# Altium integrated library Linear Technology Comparators.IntLib: 630 symbols (part 7 of 24)
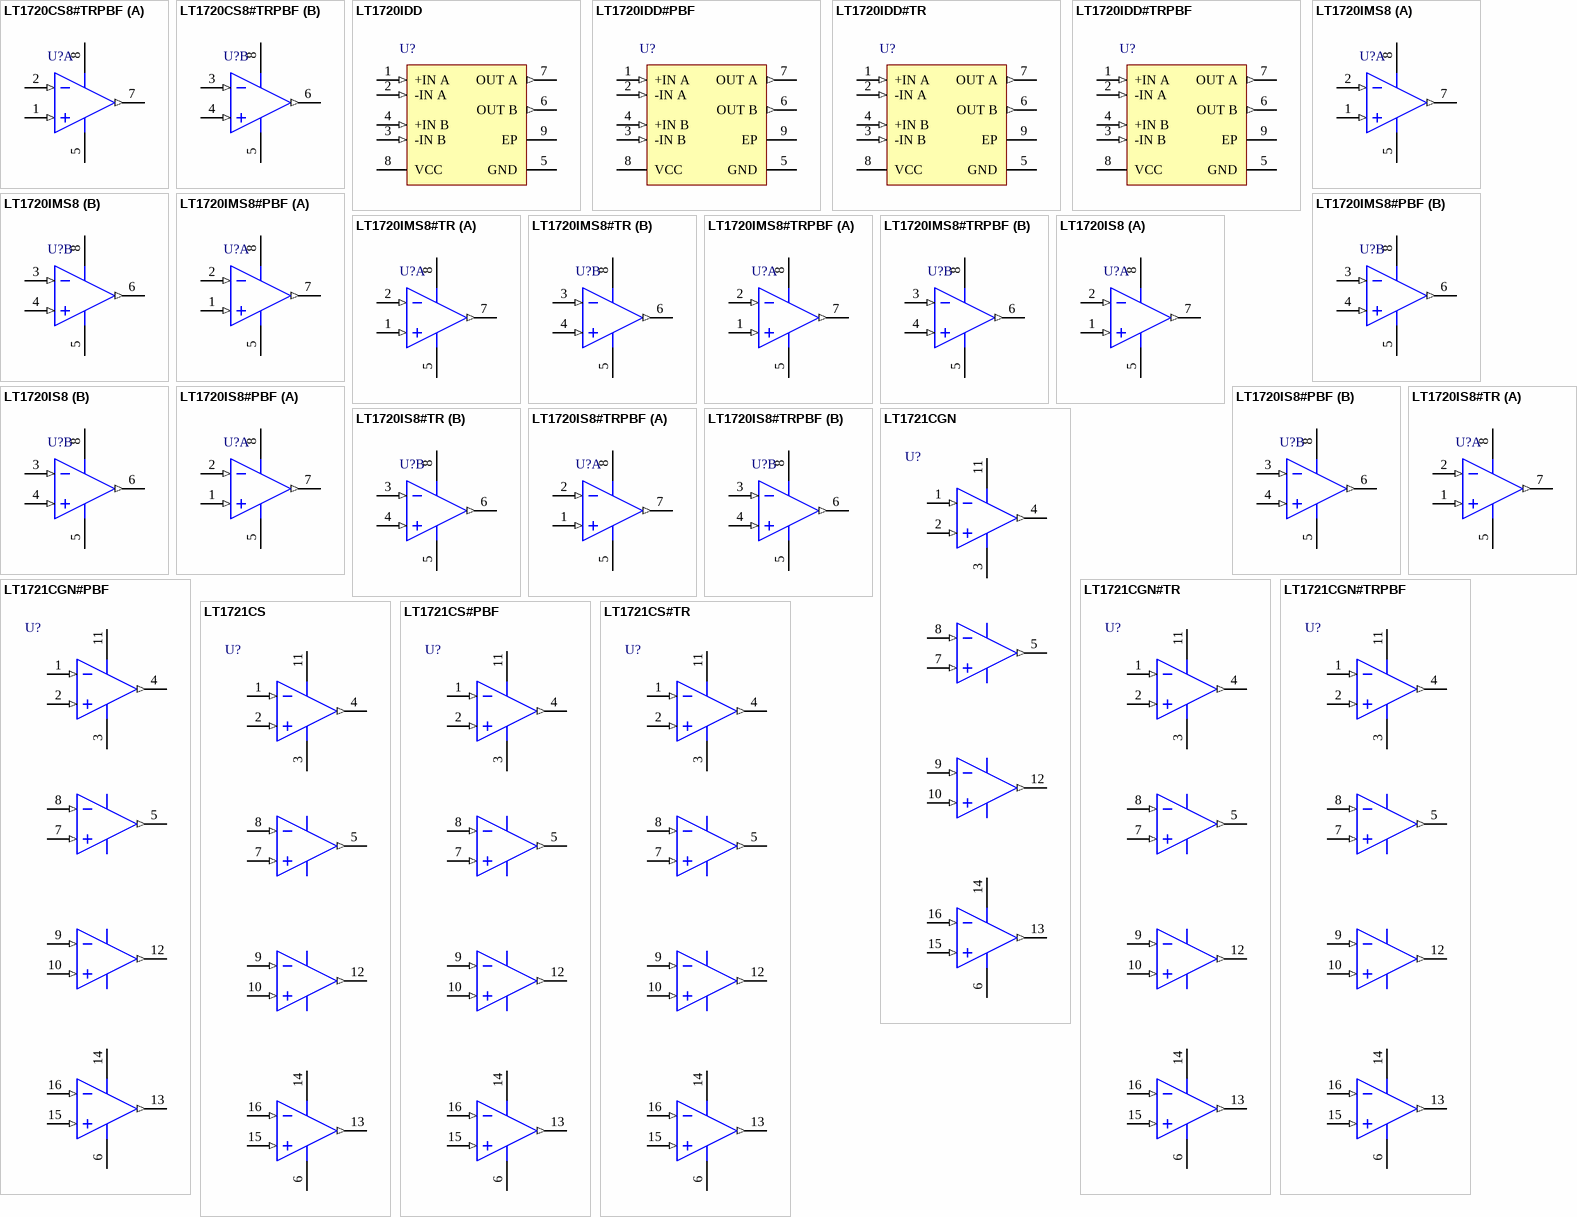
[diagram p30: symbols LT1720CS8#TRPBF to LT1721CS#TR]

## LT1720IS8#TR
designator U?
4.5 ns, Single Supply 3 V / 5 V Comparator with Rail-to-Rail Outputs, 2 Channels, 2.7 to 6 V, -40 to +85 degC, 8-pin SOP (S8), Tape and Reel; Generic Part Number: LT1720; Manufacturer: Linear Technology; PartNumber: LT1720IS8#TR; Channels (#): 2; Prop Delay (us): 0.0045; Supply Current (uA) Typical: 4000; Vos (mV) Guaranteed: 3; Vos (mV) Typical: 1; Vs Max (V): 6; Vs Min (V): 2.7; DatasheetVersion: Rev C; PackageReference: S8; PackageDescription: 8-Pin Plastic Small Outline (Narrow .150 Inch), Body 4.9 x 3.9 mm, Pitch 1.27 mm; Supplier 1: Digi-Key; Supplier Part Number 1: LT1720IS8#TR-ND; Supplier 2: Newark; Supplier Part Number 2: 57M5840; Features: Comparator, Rail-to-Rail Out; RoHS: N; Supply Voltage Range: 2.7 to 6 V; Mounting Technology: Surface Mount; ComponentLink1Description: Manufacturer URL; ComponentLink1URL: http://www.linear.com/; ComponentLink2Description: Datasheet; ComponentLink2URL: http://cds.linear.com/docs/en/datasheet/17201fc.pdf; ComponentLink3Description: Package Specification; ComponentLink3URL: http://cds.linear.com/docs/en/packaging/05081610_G_SO8.pdf
footprint LT-S8_N (SOP, 8-Leads, Body 4.9x3.9mm, Pitch 1.27mm, IPC Medium Density)
footprint LT-S8_L (SOP, 8-Leads, Body 4.9x3.9mm, Pitch 1.27mm, IPC High Density)
footprint LT-S8_M (SOP, 8-Leads, Body 4.9x3.9mm, Pitch 1.27mm, IPC Low Density)
pins on every part: 5 GND (power), 8 VCC (power)
part A pins: 1 +INA (in), 2 -INA (in), 7 OUTA (out)
part B pins: 3 -INB (in), 4 +INB (in), 6 OUTB (out)

## LT1720IS8#TRPBF
designator U?
4.5 ns, Single Supply 3 V / 5 V Comparator with Rail-to-Rail Outputs, 2 Channels, 2.7 to 6 V, -40 to +85 degC, 8-pin SOP (S8), Tape and Reel; Generic Part Number: LT1720; Manufacturer: Linear Technology; PartNumber: LT1720IS8#TRPBF; Channels (#): 2; Prop Delay (us): 0.0045; Supply Current (uA) Typical: 4000; Vos (mV) Guaranteed: 3; Vos (mV) Typical: 1; Vs Max (V): 6; Vs Min (V): 2.7; DatasheetVersion: Rev C; PackageReference: S8; PackageDescription: 8-Pin Plastic Small Outline (Narrow .150 Inch), Body 4.9 x 3.9 mm, Pitch 1.27 mm; Supplier 1: Digi-Key; Supplier Part Number 1: LT1720IS8#TRPBF-ND; Supplier 2: Newark; Supplier Part Number 2: 57M5841; Features: Comparator, Rail-to-Rail Out; RoHS: Y; Supply Voltage Range: 2.7 to 6 V; Mounting Technology: Surface Mount; ComponentLink1Description: Manufacturer URL; ComponentLink1URL: http://www.linear.com/; ComponentLink2Description: Datasheet; ComponentLink2URL: http://cds.linear.com/docs/en/datasheet/17201fc.pdf; ComponentLink3Description: Package Specification; ComponentLink3URL: http://cds.linear.com/docs/en/packaging/05081610_G_SO8.pdf
footprint LT-S8_N (SOP, 8-Leads, Body 4.9x3.9mm, Pitch 1.27mm, IPC Medium Density)
footprint LT-S8_L (SOP, 8-Leads, Body 4.9x3.9mm, Pitch 1.27mm, IPC High Density)
footprint LT-S8_M (SOP, 8-Leads, Body 4.9x3.9mm, Pitch 1.27mm, IPC Low Density)
pins on every part: 5 GND (power), 8 VCC (power)
part A pins: 1 +INA (in), 2 -INA (in), 7 OUTA (out)
part B pins: 3 -INB (in), 4 +INB (in), 6 OUTB (out)

## LT1721CGN
designator U?
4.5 ns, Single Supply 3 V / 5 V Comparator with Rail-to-Rail Outputs, 4 Channels, 2.7 to 6 V, 0 to +70 degC, 16-pin Plastic SSOP (GN16); Generic Part Number: LT1721; Manufacturer: Linear Technology; PartNumber: LT1721CGN; Channels (#): 4; Prop Delay (us): 0.0045; Supply Current (uA) Typical: 4000; Vos (mV) Guaranteed: 3; Vos (mV) Typical: 1; Vs Max (V): 6; Vs Min (V): 2.7; DatasheetVersion: Rev C; PackageReference: GN16; PackageDescription: 16-Pin Plastic SSOP, Body 4.89 x 3.9 mm, Pitch 0.635 mm; Supplier 1: Digi-Key; Supplier Part Number 1: LT1721CGN-ND; Features: Comparator, Rail-to-Rail Out; RoHS: N; Supply Voltage Range: 2.7 to 6 V; Mounting Technology: Surface Mount; ComponentLink1Description: Manufacturer URL; ComponentLink1URL: http://www.linear.com/; ComponentLink2Description: Datasheet; ComponentLink2URL: http://cds.linear.com/docs/en/datasheet/17201fc.pdf; ComponentLink3Description: Package Specification; ComponentLink3URL: http://cds.linear.com/docs/en/packaging/05081641_B_GN16.pdf
footprint LT-GN16_N (SOP, 16-Leads, Body 4.89x3.9mm, Pitch 0.635mm, , IPC Medium Density)
footprint LT-GN16_L (SOP, 16-Leads, Body 4.89x3.9mm, Pitch 0.635mm, , IPC High Density)
footprint LT-GN16_M (SOP, 16-Leads, Body 4.89x3.9mm, Pitch 0.635mm, , IPC Low Density)
pins: 1 -INA (in), 2 +INA (in), 3 GND (power), 4 OUTA (out), 5 OUTB (out), 6 GND (power), 7 +INB (in), 8 -INB (in), 9 -INC (in), 10 +INC (in), 11 VCC (power), 12 OUTC (out), 13 OUTD (out), 14 VCC (power), 15 +IND (in), 16 -IND (in)

## LT1721CGN#PBF
designator U?
4.5 ns, Single Supply 3 V / 5 V Comparator with Rail-to-Rail Outputs, 4 Channels, 2.7 to 6 V, 0 to +70 degC, 16-pin Plastic SSOP (GN16); Generic Part Number: LT1721; Manufacturer: Linear Technology; PartNumber: LT1721CGN#PBF; Channels (#): 4; Prop Delay (us): 0.0045; Supply Current (uA) Typical: 4000; Vos (mV) Guaranteed: 3; Vos (mV) Typical: 1; Vs Max (V): 6; Vs Min (V): 2.7; DatasheetVersion: Rev C; PackageReference: GN16; PackageDescription: 16-Pin Plastic SSOP, Body 4.89 x 3.9 mm, Pitch 0.635 mm; Supplier 1: Digi-Key; Supplier Part Number 1: LT1721CGN#PBF-ND; Supplier 2: Farnell; Supplier Part Number 2: 1663475; Supplier 3: Newark; Supplier Part Number 3: 57M5843; Features: Comparator, Rail-to-Rail Out; RoHS: Y; Supply Voltage Range: 2.7 to 6 V; Mounting Technology: Surface Mount; ComponentLink1Description: Manufacturer URL; ComponentLink1URL: http://www.linear.com/; ComponentLink2Description: Datasheet; ComponentLink2URL: http://cds.linear.com/docs/en/datasheet/17201fc.pdf; ComponentLink3Description: Package Specification; ComponentLink3URL: http://cds.linear.com/docs/en/packaging/05081641_B_GN16.pdf
footprint LT-GN16_N (SOP, 16-Leads, Body 4.89x3.9mm, Pitch 0.635mm, , IPC Medium Density)
footprint LT-GN16_L (SOP, 16-Leads, Body 4.89x3.9mm, Pitch 0.635mm, , IPC High Density)
footprint LT-GN16_M (SOP, 16-Leads, Body 4.89x3.9mm, Pitch 0.635mm, , IPC Low Density)
pins: 1 -INA (in), 2 +INA (in), 3 GND (power), 4 OUTA (out), 5 OUTB (out), 6 GND (power), 7 +INB (in), 8 -INB (in), 9 -INC (in), 10 +INC (in), 11 VCC (power), 12 OUTC (out), 13 OUTD (out), 14 VCC (power), 15 +IND (in), 16 -IND (in)

## LT1721CGN#TR
designator U?
4.5 ns, Single Supply 3 V / 5 V Comparator with Rail-to-Rail Outputs, 4 Channels, 2.7 to 6 V, 0 to +70 degC, 16-pin Plastic SSOP (GN16), Tape and Reel; Generic Part Number: LT1721; Manufacturer: Linear Technology; PartNumber: LT1721CGN#TR; Channels (#): 4; Prop Delay (us): 0.0045; Supply Current (uA) Typical: 4000; Vos (mV) Guaranteed: 3; Vos (mV) Typical: 1; Vs Max (V): 6; Vs Min (V): 2.7; DatasheetVersion: Rev C; PackageReference: GN16; PackageDescription: 16-Pin Plastic SSOP, Body 4.89 x 3.9 mm, Pitch 0.635 mm; Supplier 1: Digi-Key; Supplier Part Number 1: LT1721CGN#TR-ND; Features: Comparator, Rail-to-Rail Out; RoHS: N; Supply Voltage Range: 2.7 to 6 V; Mounting Technology: Surface Mount; ComponentLink1Description: Manufacturer URL; ComponentLink1URL: http://www.linear.com/; ComponentLink2Description: Datasheet; ComponentLink2URL: http://cds.linear.com/docs/en/datasheet/17201fc.pdf; ComponentLink3Description: Package Specification; ComponentLink3URL: http://cds.linear.com/docs/en/packaging/05081641_B_GN16.pdf
footprint LT-GN16_N (SOP, 16-Leads, Body 4.89x3.9mm, Pitch 0.635mm, , IPC Medium Density)
footprint LT-GN16_L (SOP, 16-Leads, Body 4.89x3.9mm, Pitch 0.635mm, , IPC High Density)
footprint LT-GN16_M (SOP, 16-Leads, Body 4.89x3.9mm, Pitch 0.635mm, , IPC Low Density)
pins: 1 -INA (in), 2 +INA (in), 3 GND (power), 4 OUTA (out), 5 OUTB (out), 6 GND (power), 7 +INB (in), 8 -INB (in), 9 -INC (in), 10 +INC (in), 11 VCC (power), 12 OUTC (out), 13 OUTD (out), 14 VCC (power), 15 +IND (in), 16 -IND (in)

## LT1721CGN#TRPBF
designator U?
4.5 ns, Single Supply 3 V / 5 V Comparator with Rail-to-Rail Outputs, 4 Channels, 2.7 to 6 V, 0 to +70 degC, 16-pin Plastic SSOP (GN16), Tape and Reel; Generic Part Number: LT1721; Manufacturer: Linear Technology; PartNumber: LT1721CGN#TRPBF; Channels (#): 4; Prop Delay (us): 0.0045; Supply Current (uA) Typical: 4000; Vos (mV) Guaranteed: 3; Vos (mV) Typical: 1; Vs Max (V): 6; Vs Min (V): 2.7; DatasheetVersion: Rev C; PackageReference: GN16; PackageDescription: 16-Pin Plastic SSOP, Body 4.89 x 3.9 mm, Pitch 0.635 mm; Supplier 1: Digi-Key; Supplier Part Number 1: LT1721CGN#TRPBF-ND; Supplier 2: Newark; Supplier Part Number 2: 57M5845; Features: Comparator, Rail-to-Rail Out; RoHS: Y; Supply Voltage Range: 2.7 to 6 V; Mounting Technology: Surface Mount; ComponentLink1Description: Manufacturer URL; ComponentLink1URL: http://www.linear.com/; ComponentLink2Description: Datasheet; ComponentLink2URL: http://cds.linear.com/docs/en/datasheet/17201fc.pdf; ComponentLink3Description: Package Specification; ComponentLink3URL: http://cds.linear.com/docs/en/packaging/05081641_B_GN16.pdf
footprint LT-GN16_N (SOP, 16-Leads, Body 4.89x3.9mm, Pitch 0.635mm, , IPC Medium Density)
footprint LT-GN16_L (SOP, 16-Leads, Body 4.89x3.9mm, Pitch 0.635mm, , IPC High Density)
footprint LT-GN16_M (SOP, 16-Leads, Body 4.89x3.9mm, Pitch 0.635mm, , IPC Low Density)
pins: 1 -INA (in), 2 +INA (in), 3 GND (power), 4 OUTA (out), 5 OUTB (out), 6 GND (power), 7 +INB (in), 8 -INB (in), 9 -INC (in), 10 +INC (in), 11 VCC (power), 12 OUTC (out), 13 OUTD (out), 14 VCC (power), 15 +IND (in), 16 -IND (in)

## LT1721CS
designator U?
4.5 ns, Single Supply 3 V / 5 V Comparator with Rail-to-Rail Outputs, 4 Channels, 2.7 to 6 V, 0 to +70 degC, 16-pin SOP (S16); Generic Part Number: LT1721; Manufacturer: Linear Technology; PartNumber: LT1721CS; Channels (#): 4; Prop Delay (us): 0.0045; Supply Current (uA) Typical: 4000; Vos (mV) Guaranteed: 3; Vos (mV) Typical: 1; Vs Max (V): 6; Vs Min (V): 2.7; DatasheetVersion: Rev C; PackageReference: S16; PackageDescription: 16-Pin Plastic Small Outline, Body 9.91 x 3.9 mm, Pitch 1.27 mm; Supplier 1: Digi-Key; Supplier Part Number 1: LT1721CS-ND; Features: Comparator, Rail-to-Rail Out; RoHS: N; Supply Voltage Range: 2.7 to 6 V; Mounting Technology: Surface Mount; ComponentLink1Description: Manufacturer URL; ComponentLink1URL: http://www.linear.com/; ComponentLink2Description: Datasheet; ComponentLink2URL: http://cds.linear.com/docs/en/datasheet/17201fc.pdf; ComponentLink3Description: Package Specification; ComponentLink3URL: http://cds.linear.com/docs/en/packaging/05081610_G_S14.pdf
footprint LT-S16_N (SOIC, 16-Leads, Body 9.9x3.9mm, Pitch 1.27mm, IPC Medium Density)
footprint LT-S16_L (SOIC, 16-Leads, Body 9.9x3.9mm, Pitch 1.27mm, IPC High Density)
footprint LT-S16_M (SOIC, 16-Leads, Body 9.9x3.9mm, Pitch 1.27mm, IPC Low Density)
pins: 1 -INA (in), 2 +INA (in), 3 GND (power), 4 OUTA (out), 5 OUTB (out), 6 GND (power), 7 +INB (in), 8 -INB (in), 9 -INC (in), 10 +INC (in), 11 VCC (power), 12 OUTC (out), 13 OUTD (out), 14 VCC (power), 15 +IND (in), 16 -IND (in)

## LT1721CS#PBF
designator U?
Quad, 4.5 ns, Single Supply 3 V / 5 V Comparator with Rail-to-Rail Outputs, 4 Channels, 2.7 to 6 V, 0 to +70 degC, 16-pin SOP (S16); Generic Part Number: LT1721; Manufacturer: Linear Technology; PartNumber: LT1721CS#PBF; Channels (#): 4; Prop Delay (us): 0.0045; Supply Current (uA) Typical: 4000; Vos (mV) Guaranteed: 3; Vos (mV) Typical: 1; Vs Max (V): 6; Vs Min (V): 2.7; DatasheetVersion: Rev C; PackageReference: S16; PackageDescription: 16-Pin Plastic Small Outline, Body 9.91 x 3.9 mm, Pitch 1.27 mm; Supplier 1: Digi-Key; Supplier Part Number 1: LT1721CS#PBF-ND; Supplier 2: Farnell; Supplier Part Number 2: 1663476; Supplier 3: Newark; Supplier Part Number 3: 57M5847; Features: Comparator, Rail-to-Rail Out; RoHS: Y; Supply Voltage Range: 2.7 to 6 V; Mounting Technology: Surface Mount; ComponentLink1Description: Manufacturer URL; ComponentLink1URL: http://www.linear.com/; ComponentLink2Description: Datasheet; ComponentLink2URL: http://cds.linear.com/docs/en/datasheet/17201fc.pdf; ComponentLink3Description: Package Specification; ComponentLink3URL: http://cds.linear.com/docs/en/packaging/05081610_G_S14.pdf
footprint LT-S16_N (SOIC, 16-Leads, Body 9.9x3.9mm, Pitch 1.27mm, IPC Medium Density)
footprint LT-S16_L (SOIC, 16-Leads, Body 9.9x3.9mm, Pitch 1.27mm, IPC High Density)
footprint LT-S16_M (SOIC, 16-Leads, Body 9.9x3.9mm, Pitch 1.27mm, IPC Low Density)
pins: 1 -INA (in), 2 +INA (in), 3 GND (power), 4 OUTA (out), 5 OUTB (out), 6 GND (power), 7 +INB (in), 8 -INB (in), 9 -INC (in), 10 +INC (in), 11 VCC (power), 12 OUTC (out), 13 OUTD (out), 14 VCC (power), 15 +IND (in), 16 -IND (in)

## LT1721CS#TR
designator U?
Quad, 4.5 ns, Single Supply 3 V / 5 V Comparator with Rail-to-Rail Outputs, 4 Channels, 2.7 to 6 V, 0 to +70 degC, 16-pin SOP (S16), Tape and Reel; Generic Part Number: LT1721; Manufacturer: Linear Technology; PartNumber: LT1721CS#TR; Channels (#): 4; Prop Delay (us): 0.0045; Supply Current (uA) Typical: 4000; Vos (mV) Guaranteed: 3; Vos (mV) Typical: 1; Vs Max (V): 6; Vs Min (V): 2.7; DatasheetVersion: Rev C; PackageReference: S16; PackageDescription: 16-Pin Plastic Small Outline, Body 9.91 x 3.9 mm, Pitch 1.27 mm; Supplier 1: Digi-Key; Supplier Part Number 1: LT1721CS#TR-ND; Features: Comparator, Rail-to-Rail Out; RoHS: N; Supply Voltage Range: 2.7 to 6 V; Mounting Technology: Surface Mount; ComponentLink1Description: Manufacturer URL; ComponentLink1URL: http://www.linear.com/; ComponentLink2Description: Datasheet; ComponentLink2URL: http://cds.linear.com/docs/en/datasheet/17201fc.pdf; ComponentLink3Description: Package Specification; ComponentLink3URL: http://cds.linear.com/docs/en/packaging/05081610_G_S14.pdf
footprint LT-S16_N (SOIC, 16-Leads, Body 9.9x3.9mm, Pitch 1.27mm, IPC Medium Density)
footprint LT-S16_L (SOIC, 16-Leads, Body 9.9x3.9mm, Pitch 1.27mm, IPC High Density)
footprint LT-S16_M (SOIC, 16-Leads, Body 9.9x3.9mm, Pitch 1.27mm, IPC Low Density)
pins: 1 -INA (in), 2 +INA (in), 3 GND (power), 4 OUTA (out), 5 OUTB (out), 6 GND (power), 7 +INB (in), 8 -INB (in), 9 -INC (in), 10 +INC (in), 11 VCC (power), 12 OUTC (out), 13 OUTD (out), 14 VCC (power), 15 +IND (in), 16 -IND (in)

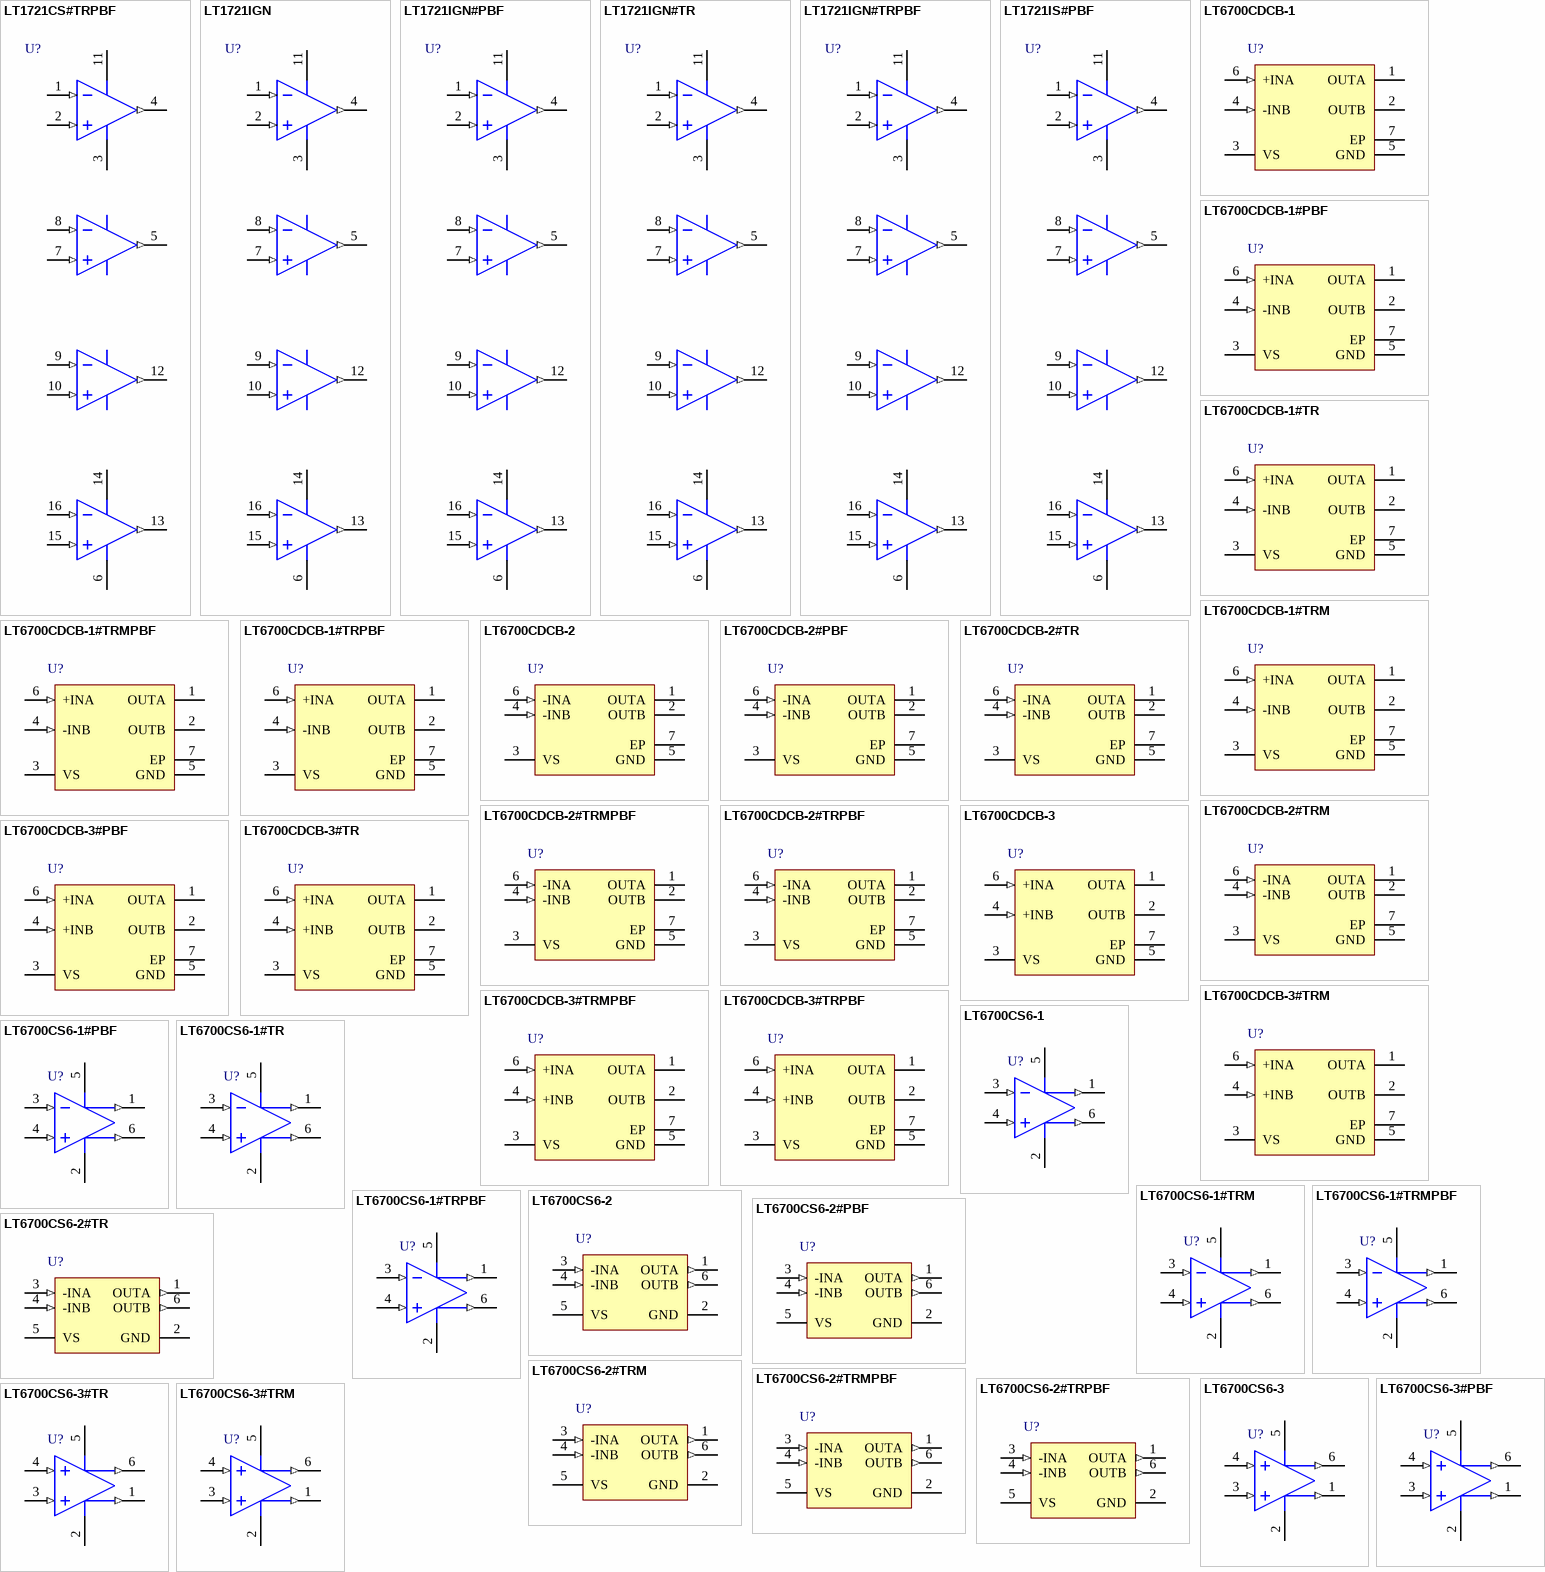
[diagram p8: symbols LT1721CS#TRPBF to LT6700CS6-3#TRM]

## LT1721CS#TRPBF
designator U?
Quad, 4.5 ns, Single Supply 3 V / 5 V Comparator with Rail-to-Rail Outputs, 4 Channels, 2.7 to 6 V, 0 to +70 degC, 16-pin SOP (S16), Tape and Reel; Generic Part Number: LT1721; Manufacturer: Linear Technology; PartNumber: LT1721CS#TRPBF; Channels (#): 4; Prop Delay (us): 0.0045; Supply Current (uA) Typical: 4000; Vos (mV) Guaranteed: 3; Vos (mV) Typical: 1; Vs Max (V): 6; Vs Min (V): 2.7; DatasheetVersion: Rev C; PackageReference: S16; PackageDescription: 16-Pin Plastic Small Outline, Body 9.91 x 3.9 mm, Pitch 1.27 mm; Supplier 1: Digi-Key; Supplier Part Number 1: LT1721CS#TRPBF-ND; Features: Comparator, Rail-to-Rail Out; RoHS: Y; Supply Voltage Range: 2.7 to 6 V; Mounting Technology: Surface Mount; ComponentLink1Description: Manufacturer URL; ComponentLink1URL: http://www.linear.com/; ComponentLink2Description: Datasheet; ComponentLink2URL: http://cds.linear.com/docs/en/datasheet/17201fc.pdf; ComponentLink3Description: Package Specification; ComponentLink3URL: http://cds.linear.com/docs/en/packaging/05081610_G_S14.pdf
footprint LT-S16_N (SOIC, 16-Leads, Body 9.9x3.9mm, Pitch 1.27mm, IPC Medium Density)
footprint LT-S16_L (SOIC, 16-Leads, Body 9.9x3.9mm, Pitch 1.27mm, IPC High Density)
footprint LT-S16_M (SOIC, 16-Leads, Body 9.9x3.9mm, Pitch 1.27mm, IPC Low Density)
pins: 1 -INA (in), 2 +INA (in), 3 GND (power), 4 OUTA (out), 5 OUTB (out), 6 GND (power), 7 +INB (in), 8 -INB (in), 9 -INC (in), 10 +INC (in), 11 VCC (power), 12 OUTC (out), 13 OUTD (out), 14 VCC (power), 15 +IND (in), 16 -IND (in)

## LT1721IGN
designator U?
Quad, 4.5 ns, Single Supply 3 V / 5 V Comparator with Rail-to-Rail Outputs, 4 Channels, 2.7 to 6 V, -40 to +85 degC, 16-pin Plastic SSOP (GN16); Generic Part Number: LT1721; Manufacturer: Linear Technology; PartNumber: LT1721IGN; Channels (#): 4; Prop Delay (us): 0.0045; Supply Current (uA) Typical: 4000; Vos (mV) Guaranteed: 3; Vos (mV) Typical: 1; Vs Max (V): 6; Vs Min (V): 2.7; DatasheetVersion: Rev C; PackageReference: GN16; PackageDescription: 16-Pin Plastic SSOP, Body 4.89 x 3.9 mm, Pitch 0.635 mm; Supplier 1: Digi-Key; Supplier Part Number 1: LT1721IGN-ND; Features: Comparator, Rail-to-Rail Out; RoHS: N; Supply Voltage Range: 2.7 to 6 V; Mounting Technology: Surface Mount; ComponentLink1Description: Manufacturer URL; ComponentLink1URL: http://www.linear.com/; ComponentLink2Description: Datasheet; ComponentLink2URL: http://cds.linear.com/docs/en/datasheet/17201fc.pdf; ComponentLink3Description: Package Specification; ComponentLink3URL: http://cds.linear.com/docs/en/packaging/05081641_B_GN16.pdf
footprint LT-GN16_N (SOP, 16-Leads, Body 4.89x3.9mm, Pitch 0.635mm, , IPC Medium Density)
footprint LT-GN16_L (SOP, 16-Leads, Body 4.89x3.9mm, Pitch 0.635mm, , IPC High Density)
footprint LT-GN16_M (SOP, 16-Leads, Body 4.89x3.9mm, Pitch 0.635mm, , IPC Low Density)
pins: 1 -INA (in), 2 +INA (in), 3 GND (power), 4 OUTA (out), 5 OUTB (out), 6 GND (power), 7 +INB (in), 8 -INB (in), 9 -INC (in), 10 +INC (in), 11 VCC (power), 12 OUTC (out), 13 OUTD (out), 14 VCC (power), 15 +IND (in), 16 -IND (in)

## LT1721IGN#PBF
designator U?
Quad, 4.5 ns, Single Supply 3 V / 5 V Comparator with Rail-to-Rail Outputs, 4 Channels, 2.7 to 6 V, -40 to +85 degC, 16-pin Plastic SSOP (GN16); Generic Part Number: LT1721; Manufacturer: Linear Technology; PartNumber: LT1721IGN#PBF; Channels (#): 4; Prop Delay (us): 0.0045; Supply Current (uA) Typical: 4000; Vos (mV) Guaranteed: 3; Vos (mV) Typical: 1; Vs Max (V): 6; Vs Min (V): 2.7; DatasheetVersion: Rev C; PackageReference: GN16; PackageDescription: 16-Pin Plastic SSOP, Body 4.89 x 3.9 mm, Pitch 0.635 mm; Supplier 1: Digi-Key; Supplier Part Number 1: LT1721IGN#PBF-ND; Supplier 2: Newark; Supplier Part Number 2: 57M5851; Features: Comparator, Rail-to-Rail Out; RoHS: Y; Supply Voltage Range: 2.7 to 6 V; Mounting Technology: Surface Mount; ComponentLink1Description: Manufacturer URL; ComponentLink1URL: http://www.linear.com/; ComponentLink2Description: Datasheet; ComponentLink2URL: http://cds.linear.com/docs/en/datasheet/17201fc.pdf; ComponentLink3Description: Package Specification; ComponentLink3URL: http://cds.linear.com/docs/en/packaging/05081641_B_GN16.pdf
footprint LT-GN16_N (SOP, 16-Leads, Body 4.89x3.9mm, Pitch 0.635mm, , IPC Medium Density)
footprint LT-GN16_L (SOP, 16-Leads, Body 4.89x3.9mm, Pitch 0.635mm, , IPC High Density)
footprint LT-GN16_M (SOP, 16-Leads, Body 4.89x3.9mm, Pitch 0.635mm, , IPC Low Density)
pins: 1 -INA (in), 2 +INA (in), 3 GND (power), 4 OUTA (out), 5 OUTB (out), 6 GND (power), 7 +INB (in), 8 -INB (in), 9 -INC (in), 10 +INC (in), 11 VCC (power), 12 OUTC (out), 13 OUTD (out), 14 VCC (power), 15 +IND (in), 16 -IND (in)

## LT1721IGN#TR
designator U?
Quad, 4.5 ns, Single Supply 3 V / 5 V Comparator with Rail-to-Rail Outputs, 4 Channels, 2.7 to 6 V, -40 to +85 degC, 16-pin Plastic SSOP (GN16), Tape and Reel; Generic Part Number: LT1721; Manufacturer: Linear Technology; PartNumber: LT1721IGN#TR; Channels (#): 4; Prop Delay (us): 0.0045; Supply Current (uA) Typical: 4000; Vos (mV) Guaranteed: 3; Vos (mV) Typical: 1; Vs Max (V): 6; Vs Min (V): 2.7; DatasheetVersion: Rev C; PackageReference: GN16; PackageDescription: 16-Pin Plastic SSOP, Body 4.89 x 3.9 mm, Pitch 0.635 mm; Supplier 1: Digi-Key; Supplier Part Number 1: LT1721IGN#TR-ND; Features: Comparator, Rail-to-Rail Out; RoHS: N; Supply Voltage Range: 2.7 to 6 V; Mounting Technology: Surface Mount; ComponentLink1Description: Manufacturer URL; ComponentLink1URL: http://www.linear.com/; ComponentLink2Description: Datasheet; ComponentLink2URL: http://cds.linear.com/docs/en/datasheet/17201fc.pdf; ComponentLink3Description: Package Specification; ComponentLink3URL: http://cds.linear.com/docs/en/packaging/05081641_B_GN16.pdf
footprint LT-GN16_N (SOP, 16-Leads, Body 4.89x3.9mm, Pitch 0.635mm, , IPC Medium Density)
footprint LT-GN16_L (SOP, 16-Leads, Body 4.89x3.9mm, Pitch 0.635mm, , IPC High Density)
footprint LT-GN16_M (SOP, 16-Leads, Body 4.89x3.9mm, Pitch 0.635mm, , IPC Low Density)
pins: 1 -INA (in), 2 +INA (in), 3 GND (power), 4 OUTA (out), 5 OUTB (out), 6 GND (power), 7 +INB (in), 8 -INB (in), 9 -INC (in), 10 +INC (in), 11 VCC (power), 12 OUTC (out), 13 OUTD (out), 14 VCC (power), 15 +IND (in), 16 -IND (in)

## LT1721IGN#TRPBF
designator U?
4.5 ns, Single Supply 3 V / 5 V Comparator with Rail-to-Rail Outputs, 4 Channels, 2.7 to 6 V, -40 to +85 degC, 16-pin Plastic SSOP (GN16), Tape and Reel; Generic Part Number: LT1721; Manufacturer: Linear Technology; PartNumber: LT1721IGN#TRPBF; Channels (#): 4; Prop Delay (us): 0.0045; Supply Current (uA) Typical: 4000; Vos (mV) Guaranteed: 3; Vos (mV) Typical: 1; Vs Max (V): 6; Vs Min (V): 2.7; DatasheetVersion: Rev C; PackageReference: GN16; PackageDescription: 16-Pin Plastic SSOP, Body 4.89 x 3.9 mm, Pitch 0.635 mm; Supplier 1: Digi-Key; Supplier Part Number 1: LT1721IGN#TRPBF-ND; Supplier 2: Newark; Supplier Part Number 2: 57M5853; Features: Comparator, Rail-to-Rail Out; RoHS: Y; Supply Voltage Range: 2.7 to 6 V; Mounting Technology: Surface Mount; ComponentLink1Description: Manufacturer URL; ComponentLink1URL: http://www.linear.com/; ComponentLink2Description: Datasheet; ComponentLink2URL: http://cds.linear.com/docs/en/datasheet/17201fc.pdf; ComponentLink3Description: Package Specification; ComponentLink3URL: http://cds.linear.com/docs/en/packaging/05081641_B_GN16.pdf
footprint LT-GN16_N (SOP, 16-Leads, Body 4.89x3.9mm, Pitch 0.635mm, , IPC Medium Density)
footprint LT-GN16_L (SOP, 16-Leads, Body 4.89x3.9mm, Pitch 0.635mm, , IPC High Density)
footprint LT-GN16_M (SOP, 16-Leads, Body 4.89x3.9mm, Pitch 0.635mm, , IPC Low Density)
pins: 1 -INA (in), 2 +INA (in), 3 GND (power), 4 OUTA (out), 5 OUTB (out), 6 GND (power), 7 +INB (in), 8 -INB (in), 9 -INC (in), 10 +INC (in), 11 VCC (power), 12 OUTC (out), 13 OUTD (out), 14 VCC (power), 15 +IND (in), 16 -IND (in)

## LT1721IS#PBF
designator U?
4.5 ns, Single Supply 3 V / 5 V Comparator with Rail-to-Rail Outputs, 4 Channels, 2.7 to 6 V, -40 to +85 degC, 16-pin SOP (S16); Generic Part Number: LT1721; Manufacturer: Linear Technology; PartNumber: LT1721IS#PBF; Channels (#): 4; Prop Delay (us): 0.0045; Supply Current (uA) Typical: 4000; Vos (mV) Guaranteed: 3; Vos (mV) Typical: 1; Vs Max (V): 6; Vs Min (V): 2.7; DatasheetVersion: Rev C; PackageReference: S16; PackageDescription: 16-Pin Plastic Small Outline, Body 9.91 x 3.9 mm, Pitch 1.27 mm; Supplier 1: Digi-Key; Supplier Part Number 1: LT1721IS#PBF-ND; Supplier 2: Newark; Supplier Part Number 2: 57M5855; Features: Comparator, Rail-to-Rail Out; RoHS: Y; Supply Voltage Range: 2.7 to 6 V; Mounting Technology: Surface Mount; ComponentLink1Description: Manufacturer URL; ComponentLink1URL: http://www.linear.com/; ComponentLink2Description: Datasheet; ComponentLink2URL: http://cds.linear.com/docs/en/datasheet/17201fc.pdf; ComponentLink3Description: Package Specification; ComponentLink3URL: http://cds.linear.com/docs/en/packaging/05081610_G_S14.pdf
footprint LT-S16_N (SOIC, 16-Leads, Body 9.9x3.9mm, Pitch 1.27mm, IPC Medium Density)
footprint LT-S16_L (SOIC, 16-Leads, Body 9.9x3.9mm, Pitch 1.27mm, IPC High Density)
footprint LT-S16_M (SOIC, 16-Leads, Body 9.9x3.9mm, Pitch 1.27mm, IPC Low Density)
pins: 1 -INA (in), 2 +INA (in), 3 GND (power), 4 OUTA (out), 5 OUTB (out), 6 GND (power), 7 +INB (in), 8 -INB (in), 9 -INC (in), 10 +INC (in), 11 VCC (power), 12 OUTC (out), 13 OUTD (out), 14 VCC (power), 15 +IND (in), 16 -IND (in)

## LT6700CDCB-1
designator U?
Micropower, Low Voltage, Comparator with 400 mV Reference, 2 Channels, 1.4 to 18 V, 0 to +70 degC, 6-pin Plastic DFN (DCB6); Generic Part Number: LT6700-1; Manufacturer: Linear Technology; PartNumber: LT6700CDCB-1; Channels (#): 2; Prop Delay (us): 18; Supply Current (uA) Guaranteed: 10; Supply Current (uA) Typical: 5.7; Vos (mV) Typical: 6; Vs Min (V): 1.4; DatasheetVersion: Rev G; PackageReference: DCB6; PackageDescription: 6-Pin Plastic DFN, Body 2 × 3 mm, Pitch 1.35 mm; Features: Comparator, Window Comparator, Reference, Over-the-Top Inputs; RoHS: N; Supply Voltage Range: 1.4 to 18 V; Vs Max (V): 18; Mounting Technology: Surface Mount; Code_JEDEC: M0-229; ComponentLink1Description: Manufacturer URL; ComponentLink1URL: http://www.linear.com/; ComponentLink2Description: Datasheet; ComponentLink2URL: http://cds.linear.com/docs/en/datasheet/6700123fg.pdf; ComponentLink3Description: Package Specification; ComponentLink3URL: http://cds.linear.com/docs/en/packaging/(DCB6)%20DFN%2005-08-1715%20Rev%20A.pdf
footprint LT-DCB6_V (SON, 6-Leads, Body 2x3mm, Pitch 0.5mm, Thermal Pad 1.35x1.65mm)
pins: 1 OUTA (oc) "Open-Collector Output of Comparator Section A This pin provides drive for up to 40mA of load current.off state voltage may be as high as 18V (36V for LT6700HV) above GND ,regardless of VS used.", 2 OUTB (oc) "Open-Collector Output of Comparator Section B  This pin provides drive for up to 40mA of load current .off state voltage may be as high as 18V(36V for LT6700HV)above  GND,regardless of VS used.", 3 VS (power) "Comparator Core Supply Voltage. The parts are characterized for operation with 1.4V =< VS =< 18V with respect to GND.", 4 -INB (in) "External Input for Comparator Section B. The voltage on this pin can range from -0.3V to 18V (36V for LT6700HV) with respect to GND regardless of VS used. The input is noninverting for the LT6700-3/LT6700HV-3, and inverting (See Datasheet)", 5 GND (power) "Ground. This pin is also the low side return of the internal 400mV reference", 6 +INA (in) "External Input for Comparator Section A. The voltage on this pin can range from -0.3V to 18V (36V for LT6700HV) with respect to GND regardless of VS used. The input is (See Datasheet)", 7 EP (power)

## LT6700CDCB-1#PBF
designator U?
Micropower, Low Voltage, Comparator with 400 mV Reference, 2 Channels, 1.4 to 18 V, 0 to +70 degC, 6-pin Plastic DFN (DCB6); Generic Part Number: LT6700-1; Manufacturer: Linear Technology; PartNumber: LT6700CDCB-1#PBF; Channels (#): 2; Prop Delay (us): 18; Supply Current (uA) Guaranteed: 10; Supply Current (uA) Typical: 5.7; Vos (mV) Typical: 6; Vs Min (V): 1.4; DatasheetVersion: Rev G; PackageReference: DCB6; PackageDescription: 6-Pin Plastic DFN, Body 2 × 3 mm, Pitch 1.35 mm; Features: Comparator, Window Comparator, Reference, Over-the-Top Inputs; RoHS: Y; Supply Voltage Range: 1.4 to 18 V; Vs Max (V): 18; Mounting Technology: Surface Mount; Code_JEDEC: M0-229; ComponentLink1Description: Manufacturer URL; ComponentLink1URL: http://www.linear.com/; ComponentLink2Description: Datasheet; ComponentLink2URL: http://cds.linear.com/docs/en/datasheet/6700123fg.pdf; ComponentLink3Description: Package Specification; ComponentLink3URL: http://cds.linear.com/docs/en/packaging/(DCB6)%20DFN%2005-08-1715%20Rev%20A.pdf
footprint LT-DCB6_V (SON, 6-Leads, Body 2x3mm, Pitch 0.5mm, Thermal Pad 1.35x1.65mm)
pins: 1 OUTA (oc) "Open-Collector Output of Comparator Section A This pin provides drive for up to 40mA of load current.off state voltage may be as high as 18V (36V for LT6700HV) above GND ,regardless of VS used.", 2 OUTB (oc) "Open-Collector Output of Comparator Section B  This pin provides drive for up to 40mA of load current .off state voltage may be as high as 18V(36V for LT6700HV)above  GND,regardless of VS used.", 3 VS (power) "Comparator Core Supply Voltage. The parts are characterized for operation with 1.4V =< VS =< 18V with respect to GND.", 4 -INB (in) "External Input for Comparator Section B. The voltage on this pin can range from -0.3V to 18V (36V for LT6700HV) with respect to GND regardless of VS used. The input is noninverting for the LT6700-3/LT6700HV-3, and inverting (See Datasheet)", 5 GND (power) "Ground. This pin is also the low side return of the internal 400mV reference", 6 +INA (in) "External Input for Comparator Section A. The voltage on this pin can range from -0.3V to 18V (36V for LT6700HV) with respect to GND regardless of VS used. The input is (See Datasheet)", 7 EP (power)

## LT6700CDCB-1#TR
designator U?
Micropower, Low Voltage, Comparator with 400 mV Reference, 2 Channels, 1.4 to 18 V, 0 to +70 degC, 6-pin Plastic DFN (DCB6), Tape and Reel; Generic Part Number: LT6700-1; Manufacturer: Linear Technology; PartNumber: LT6700CDCB-1#TR; Channels (#): 2; Prop Delay (us): 18; Supply Current (uA) Guaranteed: 10; Supply Current (uA) Typical: 5.7; Vos (mV) Typical: 6; Vs Min (V): 1.4; DatasheetVersion: Rev G; PackageReference: DCB6; PackageDescription: 6-Pin Plastic DFN, Body 2 × 3 mm, Pitch 1.35 mm; Features: Comparator, Window Comparator, Reference, Over-the-Top Inputs; RoHS: N; Supply Voltage Range: 1.4 to 18 V; Vs Max (V): 18; Mounting Technology: Surface Mount; Code_JEDEC: M0-229; ComponentLink1Description: Manufacturer URL; ComponentLink1URL: http://www.linear.com/; ComponentLink2Description: Datasheet; ComponentLink2URL: http://cds.linear.com/docs/en/datasheet/6700123fg.pdf; ComponentLink3Description: Package Specification; ComponentLink3URL: http://cds.linear.com/docs/en/packaging/(DCB6)%20DFN%2005-08-1715%20Rev%20A.pdf
footprint LT-DCB6_V (SON, 6-Leads, Body 2x3mm, Pitch 0.5mm, Thermal Pad 1.35x1.65mm)
pins: 1 OUTA (oc) "Open-Collector Output of Comparator Section A This pin provides drive for up to 40mA of load current.off state voltage may be as high as 18V (36V for LT6700HV) above GND ,regardless of VS used.", 2 OUTB (oc) "Open-Collector Output of Comparator Section B  This pin provides drive for up to 40mA of load current .off state voltage may be as high as 18V(36V for LT6700HV)above  GND,regardless of VS used.", 3 VS (power) "Comparator Core Supply Voltage. The parts are characterized for operation with 1.4V =< VS =< 18V with respect to GND.", 4 -INB (in) "External Input for Comparator Section B. The voltage on this pin can range from -0.3V to 18V (36V for LT6700HV) with respect to GND regardless of VS used. The input is noninverting for the LT6700-3/LT6700HV-3, and inverting (See Datasheet)", 5 GND (power) "Ground. This pin is also the low side return of the internal 400mV reference", 6 +INA (in) "External Input for Comparator Section A. The voltage on this pin can range from -0.3V to 18V (36V for LT6700HV) with respect to GND regardless of VS used. The input is (See Datasheet)", 7 EP (power)

## LT6700CDCB-1#TRM
designator U?
Micropower, Low Voltage, Comparator with 400 mV Reference, 2 Channels, 1.4 to 18 V, 0 to +70 degC, 6-pin Plastic DFN (DCB6), Mini Tape and Reel; Generic Part Number: LT6700-1; Manufacturer: Linear Technology; PartNumber: LT6700CDCB-1#TRM; Channels (#): 2; Prop Delay (us): 18; Supply Current (uA) Guaranteed: 10; Supply Current (uA) Typical: 5.7; Vos (mV) Typical: 6; Vs Min (V): 1.4; DatasheetVersion: Rev G; PackageReference: DCB6; PackageDescription: 6-Pin Plastic DFN, Body 2 × 3 mm, Pitch 1.35 mm; Features: Comparator, Window Comparator, Reference, Over-the-Top Inputs; RoHS: N; Supply Voltage Range: 1.4 to 18 V; Vs Max (V): 18; Mounting Technology: Surface Mount; Code_JEDEC: M0-229; ComponentLink1Description: Manufacturer URL; ComponentLink1URL: http://www.linear.com/; ComponentLink2Description: Datasheet; ComponentLink2URL: http://cds.linear.com/docs/en/datasheet/6700123fg.pdf; ComponentLink3Description: Package Specification; ComponentLink3URL: http://cds.linear.com/docs/en/packaging/(DCB6)%20DFN%2005-08-1715%20Rev%20A.pdf
footprint LT-DCB6_V (SON, 6-Leads, Body 2x3mm, Pitch 0.5mm, Thermal Pad 1.35x1.65mm)
pins: 1 OUTA (oc) "Open-Collector Output of Comparator Section A This pin provides drive for up to 40mA of load current.off state voltage may be as high as 18V (36V for LT6700HV) above GND ,regardless of VS used.", 2 OUTB (oc) "Open-Collector Output of Comparator Section B  This pin provides drive for up to 40mA of load current .off state voltage may be as high as 18V(36V for LT6700HV)above  GND,regardless of VS used.", 3 VS (power) "Comparator Core Supply Voltage. The parts are characterized for operation with 1.4V =< VS =< 18V with respect to GND.", 4 -INB (in) "External Input for Comparator Section B. The voltage on this pin can range from -0.3V to 18V (36V for LT6700HV) with respect to GND regardless of VS used. The input is noninverting for the LT6700-3/LT6700HV-3, and inverting (See Datasheet)", 5 GND (power) "Ground. This pin is also the low side return of the internal 400mV reference", 6 +INA (in) "External Input for Comparator Section A. The voltage on this pin can range from -0.3V to 18V (36V for LT6700HV) with respect to GND regardless of VS used. The input is (See Datasheet)", 7 EP (power)

## LT6700CDCB-1#TRMPBF
designator U?
Micropower, Low Voltage, Comparator with 400 mV Reference, 2 Channels, 1.4 to 18 V, 0 to +70 degC, 6-pin Plastic DFN (DCB6), Mini Tape and Reel; Generic Part Number: LT6700-1; Manufacturer: Linear Technology; PartNumber: LT6700CDCB-1#TRMPBF; Channels (#): 2; Prop Delay (us): 18; Supply Current (uA) Guaranteed: 10; Supply Current (uA) Typical: 5.7; Vos (mV) Typical: 6; Vs Min (V): 1.4; DatasheetVersion: Rev G; PackageReference: DCB6; PackageDescription: 6-Pin Plastic DFN, Body 2 × 3 mm, Pitch 1.35 mm; Supplier 1: Digi-Key; Supplier Part Number 1: LT6700CDCB-1#TRMPBF-ND; Features: Comparator, Window Comparator, Reference, Over-the-Top Inputs; RoHS: Y; Supply Voltage Range: 1.4 to 18 V; Vs Max (V): 18; Mounting Technology: Surface Mount; Code_JEDEC: M0-229; ComponentLink1Description: Manufacturer URL; ComponentLink1URL: http://www.linear.com/; ComponentLink2Description: Datasheet; ComponentLink2URL: http://cds.linear.com/docs/en/datasheet/6700123fg.pdf; ComponentLink3Description: Package Specification; ComponentLink3URL: http://cds.linear.com/docs/en/packaging/(DCB6)%20DFN%2005-08-1715%20Rev%20A.pdf
footprint LT-DCB6_V (SON, 6-Leads, Body 2x3mm, Pitch 0.5mm, Thermal Pad 1.35x1.65mm)
pins: 1 OUTA (oc) "Open-Collector Output of Comparator Section A This pin provides drive for up to 40mA of load current.off state voltage may be as high as 18V (36V for LT6700HV) above GND ,regardless of VS used.", 2 OUTB (oc) "Open-Collector Output of Comparator Section B  This pin provides drive for up to 40mA of load current .off state voltage may be as high as 18V(36V for LT6700HV)above  GND,regardless of VS used.", 3 VS (power) "Comparator Core Supply Voltage. The parts are characterized for operation with 1.4V =< VS =< 18V with respect to GND.", 4 -INB (in) "External Input for Comparator Section B. The voltage on this pin can range from -0.3V to 18V (36V for LT6700HV) with respect to GND regardless of VS used. The input is noninverting for the LT6700-3/LT6700HV-3, and inverting (See Datasheet)", 5 GND (power) "Ground. This pin is also the low side return of the internal 400mV reference", 6 +INA (in) "External Input for Comparator Section A. The voltage on this pin can range from -0.3V to 18V (36V for LT6700HV) with respect to GND regardless of VS used. The input is (See Datasheet)", 7 EP (power)

## LT6700CDCB-1#TRPBF
designator U?
Micropower, Low Voltage, Comparator with 400 mV Reference, 2 Channels, 1.4 to 18 V, 0 to +70 degC, 6-pin Plastic DFN (DCB6), Tape and Reel; Generic Part Number: LT6700-1; Manufacturer: Linear Technology; PartNumber: LT6700CDCB-1#TRPBF; Channels (#): 2; Prop Delay (us): 18; Supply Current (uA) Guaranteed: 10; Supply Current (uA) Typical: 5.7; Vos (mV) Typical: 6; Vs Min (V): 1.4; DatasheetVersion: Rev G; PackageReference: DCB6; PackageDescription: 6-Pin Plastic DFN, Body 2 × 3 mm, Pitch 1.35 mm; Supplier 1: Digi-Key; Supplier Part Number 1: LT6700CDCB-1#TRPBF-ND; Features: Comparator, Window Comparator, Reference, Over-the-Top Inputs; RoHS: Y; Supply Voltage Range: 1.4 to 18 V; Vs Max (V): 18; Mounting Technology: Surface Mount; Code_JEDEC: M0-229; ComponentLink1Description: Manufacturer URL; ComponentLink1URL: http://www.linear.com/; ComponentLink2Description: Datasheet; ComponentLink2URL: http://cds.linear.com/docs/en/datasheet/6700123fg.pdf; ComponentLink3Description: Package Specification; ComponentLink3URL: http://cds.linear.com/docs/en/packaging/(DCB6)%20DFN%2005-08-1715%20Rev%20A.pdf
footprint LT-DCB6_V (SON, 6-Leads, Body 2x3mm, Pitch 0.5mm, Thermal Pad 1.35x1.65mm)
pins: 1 OUTA (oc) "Open-Collector Output of Comparator Section A This pin provides drive for up to 40mA of load current.off state voltage may be as high as 18V (36V for LT6700HV) above GND ,regardless of VS used.", 2 OUTB (oc) "Open-Collector Output of Comparator Section B  This pin provides drive for up to 40mA of load current .off state voltage may be as high as 18V(36V for LT6700HV)above  GND,regardless of VS used.", 3 VS (power) "Comparator Core Supply Voltage. The parts are characterized for operation with 1.4V =< VS =< 18V with respect to GND.", 4 -INB (in) "External Input for Comparator Section B. The voltage on this pin can range from -0.3V to 18V (36V for LT6700HV) with respect to GND regardless of VS used. The input is noninverting for the LT6700-3/LT6700HV-3, and inverting (See Datasheet)", 5 GND (power) "Ground. This pin is also the low side return of the internal 400mV reference", 6 +INA (in) "External Input for Comparator Section A. The voltage on this pin can range from -0.3V to 18V (36V for LT6700HV) with respect to GND regardless of VS used. The input is (See Datasheet)", 7 EP (power)

## LT6700CDCB-2
designator U?
Micropower, Low Voltage, Comparator with 400 mV Reference, 2 Channels, 1.4 to 18 V, 0 to +70 degC, 6-pin Plastic DFN (DCB6); Generic Part Number: LT6700-2; Manufacturer: Linear Technology; PartNumber: LT6700CDCB-2; Channels (#): 2; Prop Delay (us): 18; Supply Current (uA) Guaranteed: 10; Supply Current (uA) Typical: 5.7; Vos (mV) Typical: 6; Vs Min (V): 1.4; DatasheetVersion: Rev G; PackageReference: DCB6; PackageDescription: 6-Pin Plastic DFN, Body 2 × 3 mm, Pitch 1.35 mm; Features: Comparator, Reference, Over-the-Top Inputs; RoHS: N; Supply Voltage Range: 1.4 to 18 V; Vs Max (V): 18; Mounting Technology: Surface Mount; Code_JEDEC: M0-229; ComponentLink1Description: Manufacturer URL; ComponentLink1URL: http://www.linear.com/; ComponentLink2Description: Datasheet; ComponentLink2URL: http://cds.linear.com/docs/en/datasheet/6700123fg.pdf; ComponentLink3Description: Package Specification; ComponentLink3URL: http://cds.linear.com/docs/en/packaging/(DCB6)%20DFN%2005-08-1715%20Rev%20A.pdf
footprint LT-DCB6_V (SON, 6-Leads, Body 2x3mm, Pitch 0.5mm, Thermal Pad 1.35x1.65mm)
pins: 1 OUTA (oc) "Open-Collector Output of Comparator Section A.This pin provides drive for up to 40mA of load current. Offstate voltage may be as high as 36V for LT6700HV above GND, regardless of VS used.", 2 OUTB (oc) "Open-Collector Output of Comparator Section B.This pin provides drive for up to 40mA of load current. Offstate voltage may be as high as 36V for LT6700HV above GND, regardless of VS used.", 3 VS (power) "Comparator Core Supply Voltage. The parts are characterized for operation with 1.4V =< VS =< 18V with respect to GND.", 4 -INB (in) "External Input for Comparator Section B. The voltage on this pin can range from -0.3V to 36V for LT6700HV withrespecttoGNDregardlessofVSused.TheinputisnoninvertingfortheLT6700-1/LT6700HV-1andLT6700-3/LT6700HV-3, and (See Datasheet)", 5 GND (power) "Ground. This pin is also the low side return of theinternal 400mV reference.", 6 -INA (in) "External Input for Comparator Section A. The voltage on this pin can range from -0.3V to 36V for LT6700HV withrespecttoGNDregardlessofVSused.TheinputisnoninvertingfortheLT6700-1/LT6700HV-1andLT6700-3/LT6700HV-3, and (See Datasheet)", 7 EP (power) "Soldered exposed pad (pin 7)  internally connected to gnd"

## LT6700CDCB-2#PBF
designator U?
Micropower, Low Voltage, Comparator with 400 mV Reference, 2 Channels, 1.4 to 18 V, 0 to +70 degC, 6-pin Plastic DFN (DCB6); Generic Part Number: LT6700-2; Manufacturer: Linear Technology; PartNumber: LT6700CDCB-2#PBF; Channels (#): 2; Prop Delay (us): 18; Supply Current (uA) Guaranteed: 10; Supply Current (uA) Typical: 5.7; Vos (mV) Typical: 6; Vs Min (V): 1.4; DatasheetVersion: Rev G; PackageReference: DCB6; PackageDescription: 6-Pin Plastic DFN, Body 2 × 3 mm, Pitch 1.35 mm; Features: Comparator, Reference, Over-the-Top Inputs; RoHS: Y; Supply Voltage Range: 1.4 to 18 V; Vs Max (V): 18; Mounting Technology: Surface Mount; Code_JEDEC: M0-229; ComponentLink1Description: Manufacturer URL; ComponentLink1URL: http://www.linear.com/; ComponentLink2Description: Datasheet; ComponentLink2URL: http://cds.linear.com/docs/en/datasheet/6700123fg.pdf; ComponentLink3Description: Package Specification; ComponentLink3URL: http://cds.linear.com/docs/en/packaging/(DCB6)%20DFN%2005-08-1715%20Rev%20A.pdf
footprint LT-DCB6_V (SON, 6-Leads, Body 2x3mm, Pitch 0.5mm, Thermal Pad 1.35x1.65mm)
pins: 1 OUTA (oc) "Open-Collector Output of Comparator Section A.This pin provides drive for up to 40mA of load current. Offstate voltage may be as high as 36V for LT6700HV above GND, regardless of VS used.", 2 OUTB (oc) "Open-Collector Output of Comparator Section B.This pin provides drive for up to 40mA of load current. Offstate voltage may be as high as 36V for LT6700HV above GND, regardless of VS used.", 3 VS (power) "Comparator Core Supply Voltage. The parts are characterized for operation with 1.4V =< VS =< 18V with respect to GND.", 4 -INB (in) "External Input for Comparator Section B. The voltage on this pin can range from -0.3V to 36V for LT6700HV withrespecttoGNDregardlessofVSused.TheinputisnoninvertingfortheLT6700-1/LT6700HV-1andLT6700-3/LT6700HV-3, and (See Datasheet)", 5 GND (power) "Ground. This pin is also the low side return of theinternal 400mV reference.", 6 -INA (in) "External Input for Comparator Section A. The voltage on this pin can range from -0.3V to 36V for LT6700HV withrespecttoGNDregardlessofVSused.TheinputisnoninvertingfortheLT6700-1/LT6700HV-1andLT6700-3/LT6700HV-3, and (See Datasheet)", 7 EP (power) "Soldered exposed pad (pin 7)  internally connected to gnd"

## LT6700CDCB-2#TR
designator U?
Micropower, Low Voltage, Comparator with 400 mV Reference, 2 Channels, 1.4 to 18 V, 0 to +70 degC, 6-pin Plastic DFN (DCB6), Tape and Reel; Generic Part Number: LT6700-2; Manufacturer: Linear Technology; PartNumber: LT6700CDCB-2#TR; Channels (#): 2; Prop Delay (us): 18; Supply Current (uA) Guaranteed: 10; Supply Current (uA) Typical: 5.7; Vos (mV) Typical: 6; Vs Min (V): 1.4; DatasheetVersion: Rev G; PackageReference: DCB6; PackageDescription: 6-Pin Plastic DFN, Body 2 × 3 mm, Pitch 1.35 mm; Features: Comparator, Reference, Over-the-Top Inputs; RoHS: N; Supply Voltage Range: 1.4 to 18 V; Vs Max (V): 18; Mounting Technology: Surface Mount; Code_JEDEC: M0-229; ComponentLink1Description: Manufacturer URL; ComponentLink1URL: http://www.linear.com/; ComponentLink2Description: Datasheet; ComponentLink2URL: http://cds.linear.com/docs/en/datasheet/6700123fg.pdf; ComponentLink3Description: Package Specification; ComponentLink3URL: http://cds.linear.com/docs/en/packaging/(DCB6)%20DFN%2005-08-1715%20Rev%20A.pdf
footprint LT-DCB6_V (SON, 6-Leads, Body 2x3mm, Pitch 0.5mm, Thermal Pad 1.35x1.65mm)
pins: 1 OUTA (oc) "Open-Collector Output of Comparator Section A.This pin provides drive for up to 40mA of load current. Offstate voltage may be as high as 36V for LT6700HV above GND, regardless of VS used.", 2 OUTB (oc) "Open-Collector Output of Comparator Section B.This pin provides drive for up to 40mA of load current. Offstate voltage may be as high as 36V for LT6700HV above GND, regardless of VS used.", 3 VS (power) "Comparator Core Supply Voltage. The parts are characterized for operation with 1.4V =< VS =< 18V with respect to GND.", 4 -INB (in) "External Input for Comparator Section B. The voltage on this pin can range from -0.3V to 36V for LT6700HV withrespecttoGNDregardlessofVSused.TheinputisnoninvertingfortheLT6700-1/LT6700HV-1andLT6700-3/LT6700HV-3, and (See Datasheet)", 5 GND (power) "Ground. This pin is also the low side return of theinternal 400mV reference.", 6 -INA (in) "External Input for Comparator Section A. The voltage on this pin can range from -0.3V to 36V for LT6700HV withrespecttoGNDregardlessofVSused.TheinputisnoninvertingfortheLT6700-1/LT6700HV-1andLT6700-3/LT6700HV-3, and (See Datasheet)", 7 EP (power) "Soldered exposed pad (pin 7)  internally connected to gnd"

## LT6700CDCB-2#TRM
designator U?
Micropower, Low Voltage, Comparator with 400 mV Reference, 2 Channels, 1.4 to 18 V, 0 to +70 degC, 6-pin Plastic DFN (DCB6), Mini Tape and Reel; Generic Part Number: LT6700-2; Manufacturer: Linear Technology; PartNumber: LT6700CDCB-2#TRM; Channels (#): 2; Prop Delay (us): 18; Supply Current (uA) Guaranteed: 10; Supply Current (uA) Typical: 5.7; Vos (mV) Typical: 6; Vs Min (V): 1.4; DatasheetVersion: Rev G; PackageReference: DCB6; PackageDescription: 6-Pin Plastic DFN, Body 2 × 3 mm, Pitch 1.35 mm; Features: Comparator, Reference, Over-the-Top Inputs; RoHS: N; Supply Voltage Range: 1.4 to 18 V; Vs Max (V): 18; Mounting Technology: Surface Mount; Code_JEDEC: M0-229; ComponentLink1Description: Manufacturer URL; ComponentLink1URL: http://www.linear.com/; ComponentLink2Description: Datasheet; ComponentLink2URL: http://cds.linear.com/docs/en/datasheet/6700123fg.pdf; ComponentLink3Description: Package Specification; ComponentLink3URL: http://cds.linear.com/docs/en/packaging/(DCB6)%20DFN%2005-08-1715%20Rev%20A.pdf
footprint LT-DCB6_V (SON, 6-Leads, Body 2x3mm, Pitch 0.5mm, Thermal Pad 1.35x1.65mm)
pins: 1 OUTA (oc) "Open-Collector Output of Comparator Section A.This pin provides drive for up to 40mA of load current. Offstate voltage may be as high as 36V for LT6700HV above GND, regardless of VS used.", 2 OUTB (oc) "Open-Collector Output of Comparator Section B.This pin provides drive for up to 40mA of load current. Offstate voltage may be as high as 36V for LT6700HV above GND, regardless of VS used.", 3 VS (power) "Comparator Core Supply Voltage. The parts are characterized for operation with 1.4V =< VS =< 18V with respect to GND.", 4 -INB (in) "External Input for Comparator Section B. The voltage on this pin can range from -0.3V to 36V for LT6700HV withrespecttoGNDregardlessofVSused.TheinputisnoninvertingfortheLT6700-1/LT6700HV-1andLT6700-3/LT6700HV-3, and (See Datasheet)", 5 GND (power) "Ground. This pin is also the low side return of theinternal 400mV reference.", 6 -INA (in) "External Input for Comparator Section A. The voltage on this pin can range from -0.3V to 36V for LT6700HV withrespecttoGNDregardlessofVSused.TheinputisnoninvertingfortheLT6700-1/LT6700HV-1andLT6700-3/LT6700HV-3, and (See Datasheet)", 7 EP (power) "Soldered exposed pad (pin 7)  internally connected to gnd"

## LT6700CDCB-2#TRMPBF
designator U?
Micropower, Low Voltage, Comparator with 400 mV Reference, 2 Channels, 1.4 to 18 V, 0 to +70 degC, 6-pin Plastic DFN (DCB6), Mini Tape and Reel; Generic Part Number: LT6700-2; Manufacturer: Linear Technology; PartNumber: LT6700CDCB-2#TRMPBF; Channels (#): 2; Prop Delay (us): 18; Supply Current (uA) Guaranteed: 10; Supply Current (uA) Typical: 5.7; Vos (mV) Typical: 6; Vs Min (V): 1.4; DatasheetVersion: Rev G; PackageReference: DCB6; PackageDescription: 6-Pin Plastic DFN, Body 2 × 3 mm, Pitch 1.35 mm; Supplier 1: Digi-Key; Supplier Part Number 1: LT6700CDCB-2#TRMPBF-ND; Features: Comparator, Reference, Over-the-Top Inputs; RoHS: Y; Supply Voltage Range: 1.4 to 18 V; Vs Max (V): 18; Mounting Technology: Surface Mount; Code_JEDEC: M0-229; ComponentLink1Description: Manufacturer URL; ComponentLink1URL: http://www.linear.com/; ComponentLink2Description: Datasheet; ComponentLink2URL: http://cds.linear.com/docs/en/datasheet/6700123fg.pdf; ComponentLink3Description: Package Specification; ComponentLink3URL: http://cds.linear.com/docs/en/packaging/(DCB6)%20DFN%2005-08-1715%20Rev%20A.pdf
footprint LT-DCB6_V (SON, 6-Leads, Body 2x3mm, Pitch 0.5mm, Thermal Pad 1.35x1.65mm)
pins: 1 OUTA (oc) "Open-Collector Output of Comparator Section A.This pin provides drive for up to 40mA of load current. Offstate voltage may be as high as 36V for LT6700HV above GND, regardless of VS used.", 2 OUTB (oc) "Open-Collector Output of Comparator Section B.This pin provides drive for up to 40mA of load current. Offstate voltage may be as high as 36V for LT6700HV above GND, regardless of VS used.", 3 VS (power) "Comparator Core Supply Voltage. The parts are characterized for operation with 1.4V =< VS =< 18V with respect to GND.", 4 -INB (in) "External Input for Comparator Section B. The voltage on this pin can range from -0.3V to 36V for LT6700HV withrespecttoGNDregardlessofVSused.TheinputisnoninvertingfortheLT6700-1/LT6700HV-1andLT6700-3/LT6700HV-3, and (See Datasheet)", 5 GND (power) "Ground. This pin is also the low side return of theinternal 400mV reference.", 6 -INA (in) "External Input for Comparator Section A. The voltage on this pin can range from -0.3V to 36V for LT6700HV withrespecttoGNDregardlessofVSused.TheinputisnoninvertingfortheLT6700-1/LT6700HV-1andLT6700-3/LT6700HV-3, and (See Datasheet)", 7 EP (power) "Soldered exposed pad (pin 7)  internally connected to gnd"